# EAGLE library part TSW-141-02-S-S (library con-samtec)
THROUGH-HOLE .025" SQ POST HEADER Source: Samtec TSW.pdf
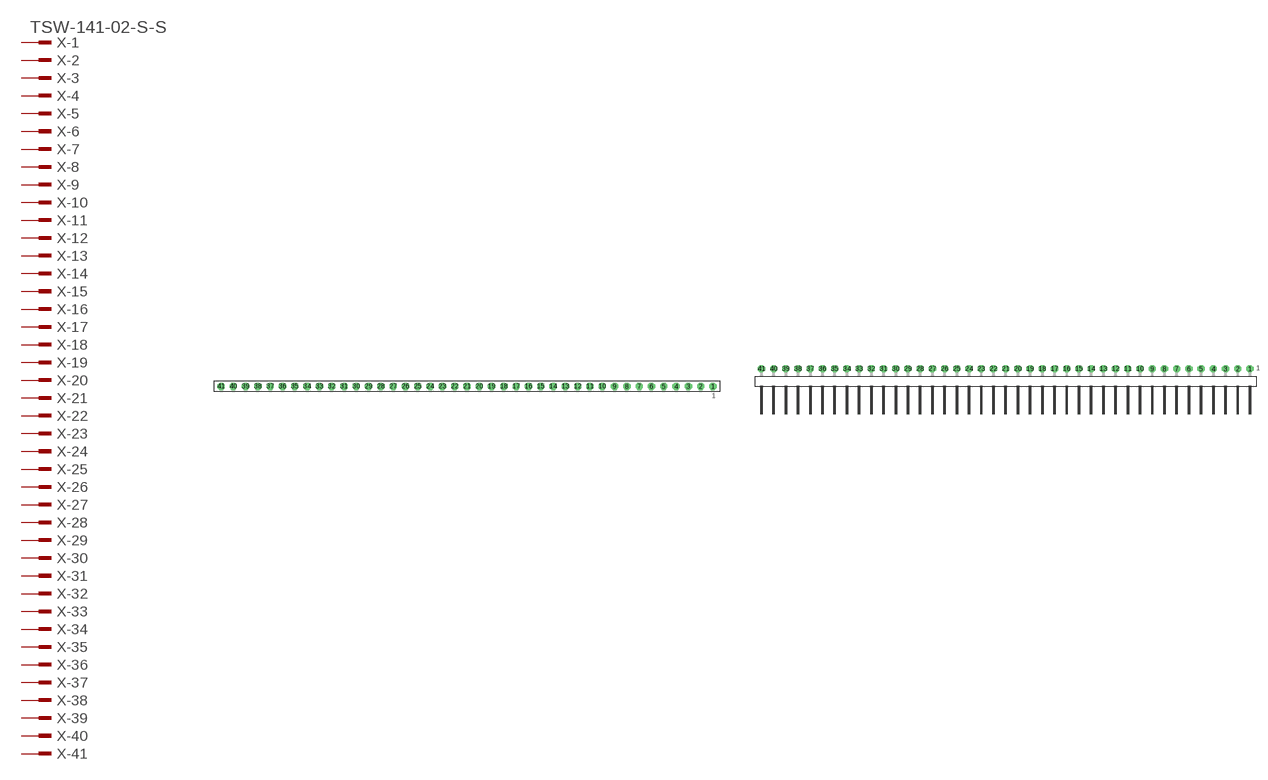
[diagram p205: symbol with the pads of TSW-141-02-S-S; footprints TSW-141-02-S-S, TSW-141-02-S-S-RA]

Designator prefix X; gates -1=MPINV -2=MPIN -3=MPIN -4=MPIN -5=MPIN -6=MPIN -7=MPIN -8=MPIN -9=MPIN -10=MPIN -11=MPIN -12=MPIN -13=MPIN -14=MPIN -15=MPIN -16=MPIN -17=MPIN -18=MPIN -19=MPIN -20=MPIN -21=MPIN -22=MPIN -23=MPIN -24=MPIN -25=MPIN -26=MPIN -27=MPIN -28=MPIN -29=MPIN -30=MPIN -31=MPIN -32=MPIN -33=MPIN -34=MPIN -35=MPIN -36=MPIN -37=MPIN -38=MPIN -39=MPIN -40=MPIN -41=MPIN

## TSW-141-02-S-S (OC_FARNELL: unknown; OC_NEWARK: unknown)  [TSW-141-02-S-S]
1  -1:1  pas
2  -2:1  pas
3  -3:1  pas
4  -4:1  pas
5  -5:1  pas
6  -6:1  pas
7  -7:1  pas
8  -8:1  pas
9  -9:1  pas
10  -10:1  pas
11  -11:1  pas
12  -12:1  pas
13  -13:1  pas
14  -14:1  pas
15  -15:1  pas
16  -16:1  pas
17  -17:1  pas
18  -18:1  pas
19  -19:1  pas
20  -20:1  pas
21  -21:1  pas
22  -22:1  pas
23  -23:1  pas
24  -24:1  pas
25  -25:1  pas
26  -26:1  pas
27  -27:1  pas
28  -28:1  pas
29  -29:1  pas
30  -30:1  pas
31  -31:1  pas
32  -32:1  pas
33  -33:1  pas
34  -34:1  pas
35  -35:1  pas
36  -36:1  pas
37  -37:1  pas
38  -38:1  pas
39  -39:1  pas
40  -40:1  pas
41  -41:1  pas

## TSW-141-02-S-S-RA (OC_FARNELL: unknown; OC_NEWARK: unknown)  [TSW-141-02-S-S-RA]
Pads as for TSW-141-02-S-S

## Footprint TSW-141-02-S-S (pad centres in mm)
THROUGH-HOLE .025" SQ POST HEADER Source: Samtec TSW.pdf
drill 1 pad 1.5 octagon: 1 50.8,0; 2 48.26,0; 3 45.72,0; 4 43.18,0; 5 40.64,0; 6 38.1,0; 7 35.56,0; 8 33.02,0; 9 30.48,0; 10 27.94,0; 11 25.4,0; 12 22.86,0; 13 20.32,0; 14 17.78,0; 15 15.24,0; 16 12.7,0; 17 10.16,0; 18 7.62,0; 19 5.08,0; 20 2.54,0; 21 0,0; 22 -2.54,0; 23 -5.08,0; 24 -7.62,0; 25 -10.16,0; 26 -12.7,0; 27 -15.24,0; 28 -17.78,0; 29 -20.32,0; 30 -22.86,0; 31 -25.4,0; 32 -27.94,0; 33 -30.48,0; 34 -33.02,0; 35 -35.56,0; 36 -38.1,0; 37 -40.64,0; 38 -43.18,0; 39 -45.72,0; 40 -48.26,0; 41 -50.8,0

## Footprint TSW-141-02-S-S-RA (pad centres in mm)
THROUGH-HOLE .025" SQ POST HEADER Source: Samtec TSW.pdf
drill 1 pad 1.5 octagon: 1 50.8,1.524; 2 48.26,1.524; 3 45.72,1.524; 4 43.18,1.524; 5 40.64,1.524; 6 38.1,1.524; 7 35.56,1.524; 8 33.02,1.524; 9 30.48,1.524; 10 27.94,1.524; 11 25.4,1.524; 12 22.86,1.524; 13 20.32,1.524; 14 17.78,1.524; 15 15.24,1.524; 16 12.7,1.524; 17 10.16,1.524; 18 7.62,1.524; 19 5.08,1.524; 20 2.54,1.524; 21 0,1.524; 22 -2.54,1.524; 23 -5.08,1.524; 24 -7.62,1.524; 25 -10.16,1.524; 26 -12.7,1.524; 27 -15.24,1.524; 28 -17.78,1.524; 29 -20.32,1.524; 30 -22.86,1.524; 31 -25.4,1.524; 32 -27.94,1.524; 33 -30.48,1.524; 34 -33.02,1.524; 35 -35.56,1.524; 36 -38.1,1.524; 37 -40.64,1.524; 38 -43.18,1.524; 39 -45.72,1.524; 40 -48.26,1.524; 41 -50.8,1.524